# EAGLE library part 6120XX22323_61200822323 (library con-wurth)
WR-BHD 2.54 mm Board to Cable Transition Connector KIND PROPERTIES: Pitch 2.54 mm Gender:Transition MATERIAL PROPERTIES: Insulator Material:PBT Insulator Flammability Rating UL94 V-0 Insulator Color:Black Contact Material :Copper Alloy Contact Plating :Gold Contact Type: Stamped GENERAL INFORMATION: Operating Temperature:-40 °C up to +125 °C Compliance:RoHS Working Voltage: 250 V (AC) Withstanding Voltage:500 V (AC) Contact Resistance: 20 mΩ Insulation Resistance:1000 MΩ CERTIFICATION UL Approval:E323964 PACKAGING PROPERTIES Packaging :Tray <https://www.we-online.de/katalog/media/o32892v209%20Family_WR-BHD_6120xx22323.jpg> Details see: https://www.we-online.de/katalog/en/em/BHD_2_54_BOARD_TO_CAB_TRANSITION_CONNECTOR_6120XX22323 Updated by Yingchun,Shan 2019-10-31 2019 (C) Würth Elektronik
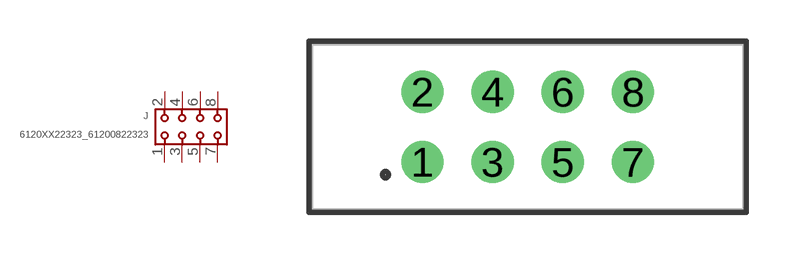
[diagram p185: symbol with the pads of 61200822323; footprint 61200822323]

Designator prefix J

## 6120XX22323_61200822323 (CONTACT-RESISTANCE: 20mOhm; DATASHEET-URL: https://www.we-online.com/redexpert/spec/61200822323?ae; GENDER: Transition; IR: 1A; LENGTH: 15.61mm; MOUNT: THT; PACKAGING: Tray; PART-NUMBER: 61200822323; PINS: 8; PITCH: 2.54mm; TYPE: Straight; VALUE: 61200822323; WORKING-VOLTAGE: 250V(AC))  [61200822323]
1  1  pas
2  2  pas
3  3  pas
4  4  pas
5  5  pas
6  6  pas
7  7  pas
8  8  pas

## Footprint 61200822323 (pad centres in mm)
WR-BHD 2.54mm Board to Cable Transition Connector, 8 Pins
drill 1.02: 1 -2.54,-1.27; 2 -2.54,1.27; 3 0,-1.27; 4 0,1.27; 5 2.54,-1.27; 6 2.54,1.27; 7 5.08,-1.27; 8 5.08,1.27